# Altium integrated library TSM-103-01-T-DV.IntLib: 1 symbol
Pins are listed as number, name and electrical type; pins without a type are passive.

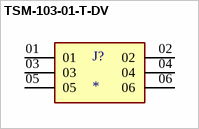
[diagram p0: symbol TSM-103-01-T-DV]

## TSM-103-01-T-DV
designator J?
MP: TSM-103-01-T-DV; MF: Samtec; Value: *; Availability: Unavailable; Package: None; Price: None
footprint SAMTEC_TSM-103-01-T-DV
pins: 01, 02, 03, 04, 05, 06